# Altium integrated library WL-SBTW SMD TOP LED bi-color waterclear.IntLib: 3 symbols
Pins are listed as number, name and electrical type; pins without a type are passive.

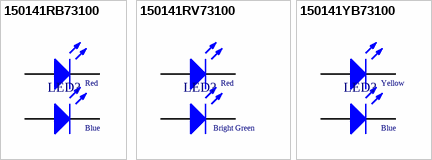
[diagram p0: symbols 150141RB73100 to 150141YB73100]

## 150141RB73100
designator LED?
SMD Bi-Color Top LED, WL-SBTW, Red & Blue; PartNumber: 150141RB73100; PackageReference: 3528_A; Color: Red & Blue; ComponentLink1Description: Manufacturer URL; ComponentLink1URL: http://www.we-online.com; ComponentLink2Description: Datasheet; ComponentLink2URL: http://katalog.we-online.com/led/datasheet/150141RB73100.pdf
footprint 3528_A (Chip LED, 4-Leads, Body 2.8x3.5mm (max), Pitch 1.42mm, IPC Medium Density)
pins: 1 A, 2 A, 3 C, 4 C
1 alternate drawing of the same symbol
text: Red; Blue

## 150141RV73100
designator LED?
SMD Bi-Color Top LED, WL-SBTW, Red & Bright Green; PartNumber: 150141RV73100; PackageReference: 3528_A; Color: Red & Bright Green; ComponentLink1Description: Manufacturer URL; ComponentLink1URL: http://www.we-online.com; ComponentLink2Description: Datasheet; ComponentLink2URL: http://katalog.we-online.com/led/datasheet/150141RV73100.pdf
footprint 3528_A (Chip LED, 4-Leads, Body 2.8x3.5mm (max), Pitch 1.42mm, IPC Medium Density)
pins: 1 A, 2 A, 3 C, 4 C
1 alternate drawing of the same symbol
text: Red; Bright Green

## 150141YB73100
designator LED?
SMD Bi-Color Top LED, WL-SBTW, Yellow & Blue; PartNumber: 150141YB73100; PackageReference: 3528_A; Color: Yellow & Blue; ComponentLink1Description: Manufacturer URL; ComponentLink1URL: http://www.we-online.com; ComponentLink2Description: Datasheet; ComponentLink2URL: http://katalog.we-online.com/led/datasheet/150141YB73100.pdf
footprint 3528_A (Chip LED, 4-Leads, Body 2.8x3.5mm (max), Pitch 1.42mm, IPC Medium Density)
pins: 1 A, 2 A, 3 C, 4 C
1 alternate drawing of the same symbol
text: Yellow; Blue